# Altium schematic symbol library CustomComponents.SchLib: 1 symbol
Pins are listed as number, name and electrical type; pins without a type are passive.

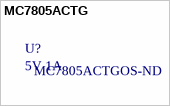
[diagram p0: symbol MC7805ACTG]

## MC7805ACTG
designator U?, comment 5V 1A  Supplier Part Number 1: MC7805ACTGOS-ND
IC REG LDO 5V 1A TO220AB; Manufacturer: ON Semiconductor; Manufacturer Part Number: MC7805ACTG; Regulator Topology: Positive Fixed; Voltage - Dropout (Typical): 2V @ 1A; Number of Regulators: 1; Voltage - Input: Up to 35V; Supplier 1: Digi-Key; RoHS: RoHS Compliant; Category: Integrated Circuits (ICs); Stock 1: 4889; Pricing 1: 1=0.48, 10=0.408, 100=0.3044, 500=0.23924, 1000=0.18487 (EUR); Packaging: Tube; Part Status: Active; Current - Output: 1A; Current - Limit (Min): -; Operating Temperature: 0°C ~ 125°C; Mounting Type: Through Hole; Package / Case: TO-220-3; Supplier Device Package: TO-220AB; ComponentLink1URL: http://www.onsemi.com/pub_link/Collateral/MC7800-D.PDF; ComponentLink1Description: http://www.onsemi.com/pub_link/Collateral/MC7800-D.PDF; Voltage - Output: 5V
footprint MC7805ACTG
1 alternate drawing of the same symbol